# Altium integrated library Linear Technology PMIC-Switching Reg LTC1174-LTC3901.IntLib: 2647 symbols (part 216 of 310)
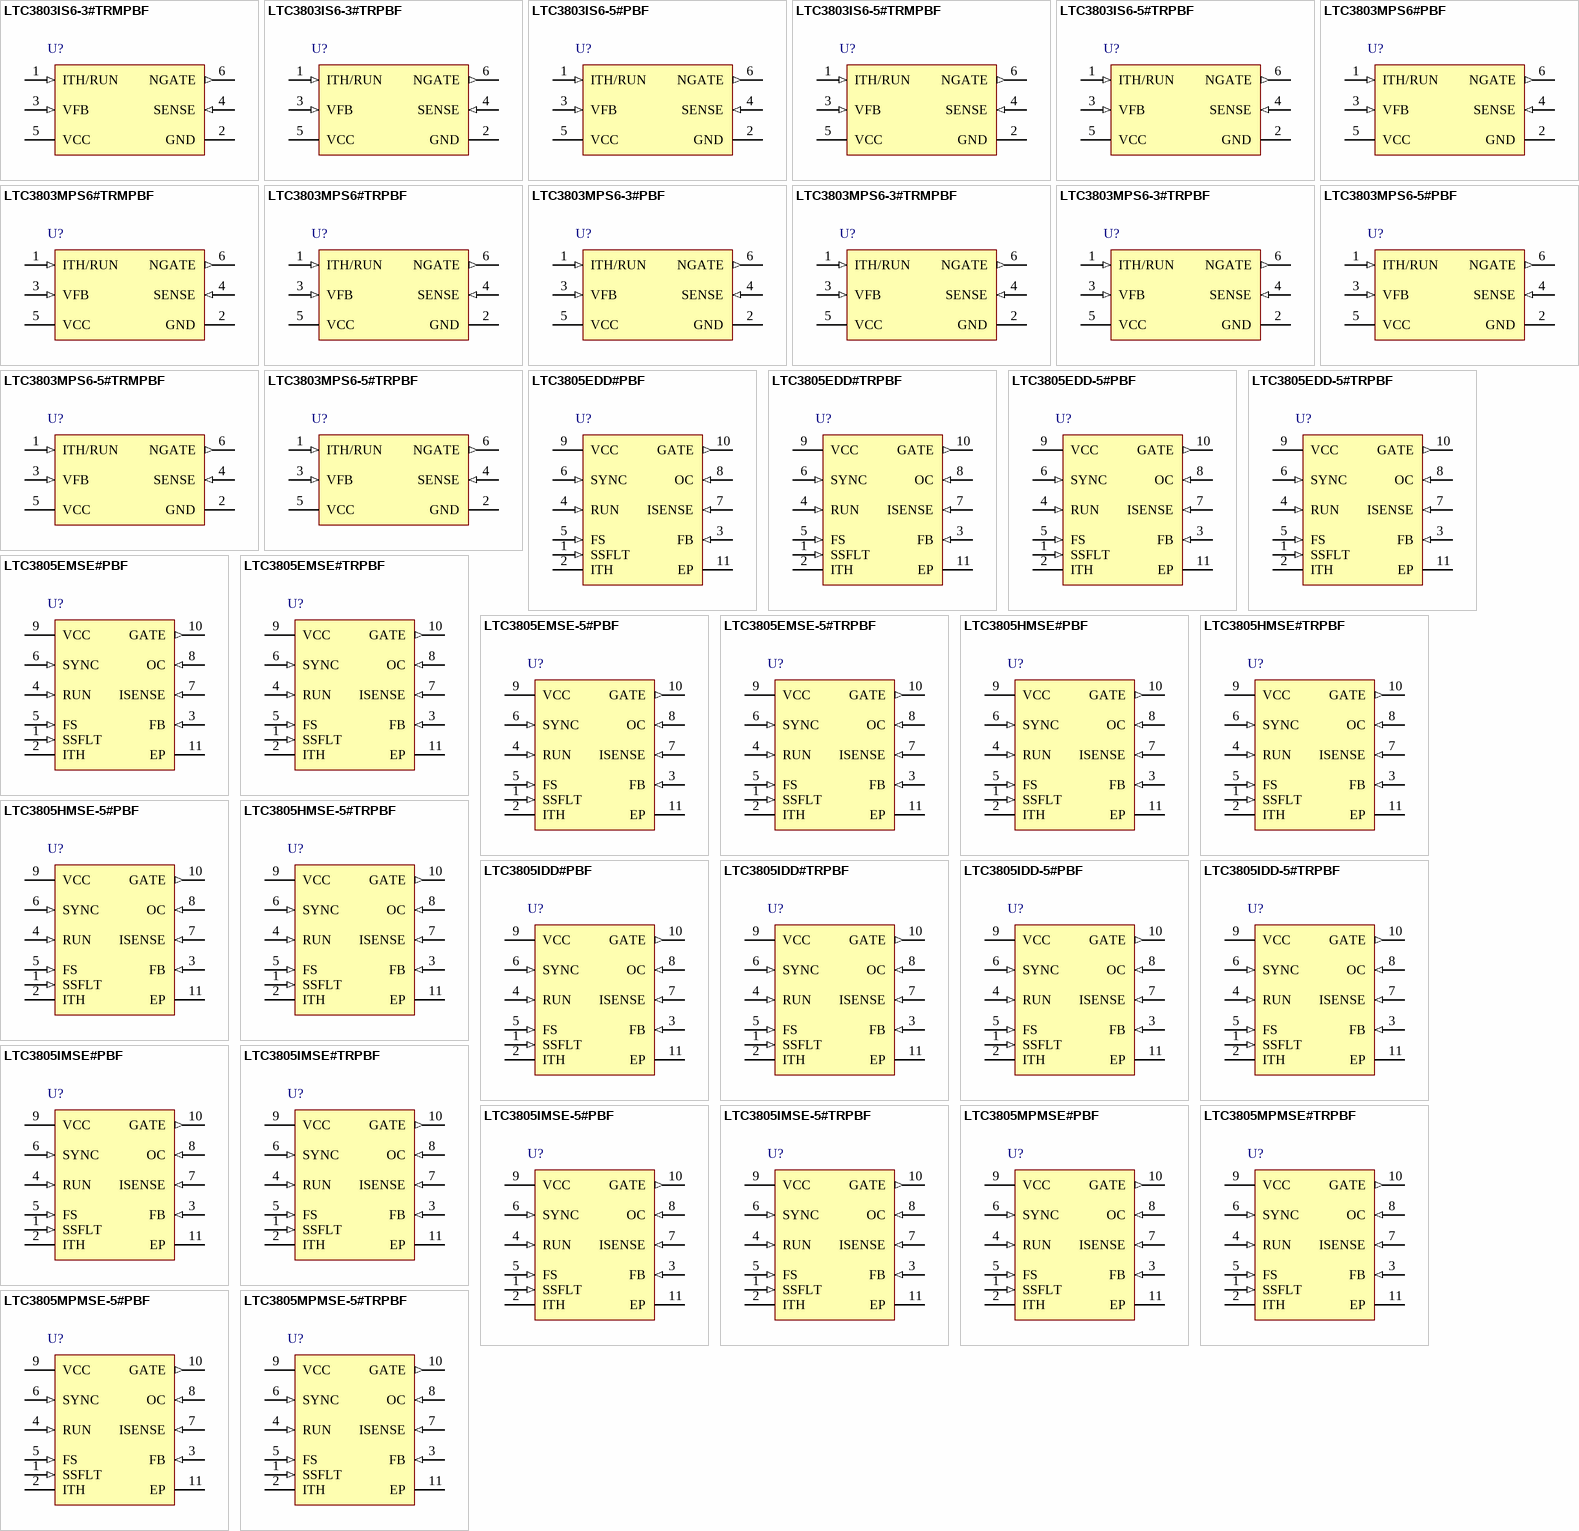
[diagram p242: symbols LTC3803IS6-3#TRMPBF to LTC3805MPMSE-5#TRPBF]

## LTC3803MPS6-5#PBF
designator U?
Constant Frequency Current Mode Flyback DC/DC Controller, 6-pin SOT23 (S6-6), -55 to 150 degC, Pb-Free; Manufacturer: Linear Technology; PartNumber: LTC3803MPS6-5#PBF; Number of Outputs: 1; PackageReference: S6-6; PackageDescription: 6-Pin Plastic TSOT-23, Body 2.9 x 1.63 mm, Pitch 0.95 mm; RoHS: TRUE; Code_JEDEC: MO-193
footprint LT-S6-6-TSOT-23_N (SOT23, 6-Leads, Body 2.9x1.75mm, Pitch 0.95mm, IPC Medium Density)
footprint LT-S6-6-TSOT-23_L (SOT23, 6-Leads, Body 2.9x1.75mm, Pitch 0.95mm, IPC High Density)
footprint LT-S6-6-TSOT-23_M (SOT23, 6-Leads, Body 2.9x1.75mm, Pitch 0.95mm, IPC Low Density)
pins: 1 ITH/RUN (in), 2 GND (power) "Ground Pin.", 3 VFB (in) "Receives the feedback voltage from an external resistive divider across the output.", 4 SENSE (in) "This pin performs two functions. It monitors switch current by reading the voltage across an external current sense resistor to ground. It also injects a current ramp that develops slope compensation voltage across an (See Datasheet)", 5 VCC (power) "Supply Pin. Must be closely decoupled to GND (Pin 2).", 6 NGATE (out) "Gate Drive for the External N-channel MOSFET. This pin swings from 0V to VCC."

## LTC3803MPS6-5#TRMPBF
designator U?
Constant Frequency Current Mode Flyback DC/DC Controller, 6-pin SOT23 (S6-6), -55 to 150 degC, Pb-Free, Mini Tape and Reel; Manufacturer: Linear Technology; PartNumber: LTC3803MPS6-5#TRMPBF; Number of Outputs: 1; PackageReference: S6-6; PackageDescription: 6-Pin Plastic TSOT-23, Body 2.9 x 1.63 mm, Pitch 0.95 mm; Supplier 1: Digi-Key; Supplier Part Number 1: LTC3803MPS6-5#TRMPBF-ND; RoHS: TRUE; Code_JEDEC: MO-193
footprint LT-S6-6-TSOT-23_N (SOT23, 6-Leads, Body 2.9x1.75mm, Pitch 0.95mm, IPC Medium Density)
footprint LT-S6-6-TSOT-23_L (SOT23, 6-Leads, Body 2.9x1.75mm, Pitch 0.95mm, IPC High Density)
footprint LT-S6-6-TSOT-23_M (SOT23, 6-Leads, Body 2.9x1.75mm, Pitch 0.95mm, IPC Low Density)
pins: 1 ITH/RUN (in), 2 GND (power) "Ground Pin.", 3 VFB (in) "Receives the feedback voltage from an external resistive divider across the output.", 4 SENSE (in) "This pin performs two functions. It monitors switch current by reading the voltage across an external current sense resistor to ground. It also injects a current ramp that develops slope compensation voltage across an (See Datasheet)", 5 VCC (power) "Supply Pin. Must be closely decoupled to GND (Pin 2).", 6 NGATE (out) "Gate Drive for the External N-channel MOSFET. This pin swings from 0V to VCC."

## LTC3803MPS6-5#TRPBF
designator U?
Constant Frequency Current Mode Flyback DC/DC Controller, 6-pin SOT23 (S6-6), -55 to 150 degC, Pb-Free, Tape and Reel; Manufacturer: Linear Technology; PartNumber: LTC3803MPS6-5#TRPBF; Number of Outputs: 1; PackageReference: S6-6; PackageDescription: 6-Pin Plastic TSOT-23, Body 2.9 x 1.63 mm, Pitch 0.95 mm; Supplier 1: Digi-Key; Supplier Part Number 1: LTC3803MPS6-5#TRPBF-ND; RoHS: TRUE; Code_JEDEC: MO-193
footprint LT-S6-6-TSOT-23_N (SOT23, 6-Leads, Body 2.9x1.75mm, Pitch 0.95mm, IPC Medium Density)
footprint LT-S6-6-TSOT-23_L (SOT23, 6-Leads, Body 2.9x1.75mm, Pitch 0.95mm, IPC High Density)
footprint LT-S6-6-TSOT-23_M (SOT23, 6-Leads, Body 2.9x1.75mm, Pitch 0.95mm, IPC Low Density)
pins: 1 ITH/RUN (in), 2 GND (power) "Ground Pin.", 3 VFB (in) "Receives the feedback voltage from an external resistive divider across the output.", 4 SENSE (in) "This pin performs two functions. It monitors switch current by reading the voltage across an external current sense resistor to ground. It also injects a current ramp that develops slope compensation voltage across an (See Datasheet)", 5 VCC (power) "Supply Pin. Must be closely decoupled to GND (Pin 2).", 6 NGATE (out) "Gate Drive for the External N-channel MOSFET. This pin swings from 0V to VCC."

## LTC3805EDD#PBF
designator U?
Adjustable Frequency Current Mode Flyback DC/DC Controller, 10-pin SON (DD-10), -40 to 85 degC, Pb-Free; Manufacturer: Linear Technology; PartNumber: LTC3805EDD#PBF; Number of Outputs: 1; PackageReference: DD-10; PackageDescription: 10-Pin Plastic DFN, Body 3 x 3 mm, Pitch 0.5 mm; Supplier 1: Digi-Key; Supplier Part Number 1: LTC3805EDD#PBF-ND; RoHS: TRUE; Code_JEDEC: MO-229
footprint LT-DD-10_V (SON, 10-Leads, Body 3x3mm, Pitch 0.5mm, Thermal Pad 2.38x1.65mm)
pins: 1 SSFLT (in) "Soft-Start Pin. A capacitor placed from this pin to GND (Exposed Pad) controls the rate of rise of converter output voltage during start-up. This capacitor is also used for time out after a fault prior to restart.", 2 ITH "Error Amplifier Compensation Point. Normal operating voltage range is clamped between 0.7V and 1.9V.", 3 FB (in) "Receives the feedback voltage from an external resistor divider across the output.", 4 RUN (in) "An external resistor divider connects this pin to VIN and sets the thresholds for converter operation.", 5 FS (in) "A resistor connected from this pin to ground sets the frequency of operation.", 6 SYNC (in) "Input to synchronize the oscillator to an external source.", 7 ISENSE (in) "Performs two functions: for current mode control, it monitors the switch current, using the voltage across an external current sense resistor. Pin 7 also injects a current ramp that develops slope compensation voltage across (See Datasheet)", 8 OC (in) "Overcurrent Pin. Connect this pin to the external switch current sense resistor. An additional resistor programs the overcurrent trip level.", 9 VCC (power) "Supply Pin. A capacitor must closely decouple VCC to GND (Exposed Pad).", 10 GATE (out) "Gate Drive for the External N-Channel MOSFET. This pin swings from GND to VCC.", 11 EP (power) "Ground. A capacitor must closely decouple GND to VCC (Pin 9). The exposed pad must be soldered to electrical ground on PCB for electrical contact and rated thermal performance."

## LTC3805EDD#TRPBF
designator U?
Adjustable Frequency Current Mode Flyback DC/DC Controller, 10-pin SON (DD-10), -40 to 85 degC, Pb-Free, Tape and Reel; Manufacturer: Linear Technology; PartNumber: LTC3805EDD#TRPBF; Number of Outputs: 1; PackageReference: DD-10; PackageDescription: 10-Pin Plastic DFN, Body 3 x 3 mm, Pitch 0.5 mm; Supplier 1: Digi-Key; Supplier Part Number 1: LTC3805EDD#TRPBF-ND; RoHS: TRUE; Code_JEDEC: MO-229
footprint LT-DD-10_V (SON, 10-Leads, Body 3x3mm, Pitch 0.5mm, Thermal Pad 2.38x1.65mm)
pins: 1 SSFLT (in) "Soft-Start Pin. A capacitor placed from this pin to GND (Exposed Pad) controls the rate of rise of converter output voltage during start-up. This capacitor is also used for time out after a fault prior to restart.", 2 ITH "Error Amplifier Compensation Point. Normal operating voltage range is clamped between 0.7V and 1.9V.", 3 FB (in) "Receives the feedback voltage from an external resistor divider across the output.", 4 RUN (in) "An external resistor divider connects this pin to VIN and sets the thresholds for converter operation.", 5 FS (in) "A resistor connected from this pin to ground sets the frequency of operation.", 6 SYNC (in) "Input to synchronize the oscillator to an external source.", 7 ISENSE (in) "Performs two functions: for current mode control, it monitors the switch current, using the voltage across an external current sense resistor. Pin 7 also injects a current ramp that develops slope compensation voltage across (See Datasheet)", 8 OC (in) "Overcurrent Pin. Connect this pin to the external switch current sense resistor. An additional resistor programs the overcurrent trip level.", 9 VCC (power) "Supply Pin. A capacitor must closely decouple VCC to GND (Exposed Pad).", 10 GATE (out) "Gate Drive for the External N-Channel MOSFET. This pin swings from GND to VCC.", 11 EP (power) "Ground. A capacitor must closely decouple GND to VCC (Pin 9). The exposed pad must be soldered to electrical ground on PCB for electrical contact and rated thermal performance."

## LTC3805EDD-5#PBF
designator U?
Adjustable Frequency Current Mode Flyback / Boost / SEPIC DC/DC Controller, 10-pin SON (DD-10), -40 to 85 degC, Pb-Free; Manufacturer: Linear Technology; PartNumber: LTC3805EDD-5#PBF; Number of Outputs: 1; PackageReference: DD-10; PackageDescription: 10-Pin Plastic DFN, Body 3 x 3 mm, Pitch 0.5 mm; Supplier 1: Digi-Key; Supplier Part Number 1: LTC3805EDD-5#PBF-ND; RoHS: TRUE; Code_JEDEC: MO-229
footprint LT-DD-10_V (SON, 10-Leads, Body 3x3mm, Pitch 0.5mm, Thermal Pad 2.38x1.65mm)
pins: 1 SSFLT (in) "Soft-Start Pin. A capacitor placed from this pin to GND (Exposed Pad) controls the rate of rise of converter output voltage during start-up. This capacitor is also used for time out after a fault prior to restart.", 2 ITH "Error Amplifier Compensation Point. Normal operating voltage range is clamped between 0.7V and 1.9V.", 3 FB (in) "Receives the feedback voltage from an external resistor divider across the output.", 4 RUN (in) "An external resistor divider connects this pin to VIN and sets the thresholds for converter operation.", 5 FS (in) "A resistor connected from this pin to ground sets the frequency of operation.", 6 SYNC (in) "Input to synchronize the oscillator to an external source.", 7 ISENSE (in) "Performs two functions: for current mode control, it monitors the switch current, using the voltage across an external current sense resistor. Pin 7 also injects a current ramp that develops slope compensation voltage across (See Datasheet)", 8 OC (in) "Overcurrent Pin. Connect this pin to the external switch current sense resistor. An additional resistor programs the overcurrent trip level.", 9 VCC (power) "Supply Pin. A capacitor must closely decouple VCC to GND (Exposed Pad).", 10 GATE (out) "Gate Drive for the External N-Channel MOSFET. This pin swings from GND to VCC.", 11 EP (power) "Ground. A capacitor must closely decouple GND to VCC (Pin 9). The exposed pad must be soldered to electrical ground on PCB for electrical contact and rated thermal performance."

## LTC3805EDD-5#TRPBF
designator U?
Adjustable Frequency Current Mode Flyback / Boost / SEPIC DC/DC Controller, 10-pin SON (DD-10), -40 to 85 degC, Pb-Free, Tape and Reel; Manufacturer: Linear Technology; PartNumber: LTC3805EDD-5#TRPBF; Number of Outputs: 1; PackageReference: DD-10; PackageDescription: 10-Pin Plastic DFN, Body 3 x 3 mm, Pitch 0.5 mm; Supplier 1: Digi-Key; Supplier Part Number 1: LTC3805EDD-5#TRPBF-ND; RoHS: TRUE; Code_JEDEC: MO-229
footprint LT-DD-10_V (SON, 10-Leads, Body 3x3mm, Pitch 0.5mm, Thermal Pad 2.38x1.65mm)
pins: 1 SSFLT (in) "Soft-Start Pin. A capacitor placed from this pin to GND (Exposed Pad) controls the rate of rise of converter output voltage during start-up. This capacitor is also used for time out after a fault prior to restart.", 2 ITH "Error Amplifier Compensation Point. Normal operating voltage range is clamped between 0.7V and 1.9V.", 3 FB (in) "Receives the feedback voltage from an external resistor divider across the output.", 4 RUN (in) "An external resistor divider connects this pin to VIN and sets the thresholds for converter operation.", 5 FS (in) "A resistor connected from this pin to ground sets the frequency of operation.", 6 SYNC (in) "Input to synchronize the oscillator to an external source.", 7 ISENSE (in) "Performs two functions: for current mode control, it monitors the switch current, using the voltage across an external current sense resistor. Pin 7 also injects a current ramp that develops slope compensation voltage across (See Datasheet)", 8 OC (in) "Overcurrent Pin. Connect this pin to the external switch current sense resistor. An additional resistor programs the overcurrent trip level.", 9 VCC (power) "Supply Pin. A capacitor must closely decouple VCC to GND (Exposed Pad).", 10 GATE (out) "Gate Drive for the External N-Channel MOSFET. This pin swings from GND to VCC.", 11 EP (power) "Ground. A capacitor must closely decouple GND to VCC (Pin 9). The exposed pad must be soldered to electrical ground on PCB for electrical contact and rated thermal performance."

## LTC3805EMSE#PBF
designator U?
Adjustable Frequency Current Mode Flyback DC/DC Controller, 10-pin SOP (MSE-10-EDP), -40 to 85 degC, Pb-Free; Manufacturer: Linear Technology; PartNumber: LTC3805EMSE#PBF; Number of Outputs: 1; PackageReference: MSE-10; PackageDescription: 10-Pin Plastic MSOP, Exposed Die Pad, Body 3 x 3 mm, Pitch 0.5 mm; Supplier 1: Digi-Key; Supplier Part Number 1: LTC3805EMSE#PBF-ND; RoHS: TRUE
footprint LT-MSE-10-EDP_N (SOP, 10-Leads, Body 3.1x3.1mm, Pitch 0.5mm, Thermal Pad 1.88x1.68mm, IPC Medium Density)
footprint LT-MSE-10-EDP_L (SOP, 10-Leads, Body 3.1x3.1mm, Pitch 0.5mm, Thermal Pad 1.88x1.68mm, IPC High Density)
footprint LT-MSE-10-EDP_M (SOP, 10-Leads, Body 3.1x3.1mm, Pitch 0.5mm, Thermal Pad 1.88x1.68mm, IPC Low Density)
pins: 1 SSFLT (in) "Soft-Start Pin. A capacitor placed from this pin to GND (Exposed Pad) controls the rate of rise of converter output voltage during start-up. This capacitor is also used for time out after a fault prior to restart.", 2 ITH "Error Amplifier Compensation Point. Normal operating voltage range is clamped between 0.7V and 1.9V.", 3 FB (in) "Receives the feedback voltage from an external resistor divider across the output.", 4 RUN (in) "An external resistor divider connects this pin to VIN and sets the thresholds for converter operation.", 5 FS (in) "A resistor connected from this pin to ground sets the frequency of operation.", 6 SYNC (in) "Input to synchronize the oscillator to an external source.", 7 ISENSE (in) "Performs two functions: for current mode control, it monitors the switch current, using the voltage across an external current sense resistor. Pin 7 also injects a current ramp that develops slope compensation voltage across (See Datasheet)", 8 OC (in) "Overcurrent Pin. Connect this pin to the external switch current sense resistor. An additional resistor programs the overcurrent trip level.", 9 VCC (power) "Supply Pin. A capacitor must closely decouple VCC to GND (Exposed Pad).", 10 GATE (out) "Gate Drive for the External N-Channel MOSFET. This pin swings from GND to VCC.", 11 EP (power) "Ground. A capacitor must closely decouple GND to VCC (Pin 9). The exposed pad must be soldered to electrical ground on PCB for electrical contact and rated thermal performance."

## LTC3805EMSE#TRPBF
designator U?
Adjustable Frequency Current Mode Flyback DC/DC Controller, 10-pin SOP (MSE-10-EDP), -40 to 85 degC, Pb-Free, Tape and Reel; Manufacturer: Linear Technology; PartNumber: LTC3805EMSE#TRPBF; Number of Outputs: 1; PackageReference: MSE-10; PackageDescription: 10-Pin Plastic MSOP, Exposed Die Pad, Body 3 x 3 mm, Pitch 0.5 mm; Supplier 1: Digi-Key; Supplier Part Number 1: LTC3805EMSE#TRPBF-ND; RoHS: TRUE
footprint LT-MSE-10-EDP_N (SOP, 10-Leads, Body 3.1x3.1mm, Pitch 0.5mm, Thermal Pad 1.88x1.68mm, IPC Medium Density)
footprint LT-MSE-10-EDP_L (SOP, 10-Leads, Body 3.1x3.1mm, Pitch 0.5mm, Thermal Pad 1.88x1.68mm, IPC High Density)
footprint LT-MSE-10-EDP_M (SOP, 10-Leads, Body 3.1x3.1mm, Pitch 0.5mm, Thermal Pad 1.88x1.68mm, IPC Low Density)
pins: 1 SSFLT (in) "Soft-Start Pin. A capacitor placed from this pin to GND (Exposed Pad) controls the rate of rise of converter output voltage during start-up. This capacitor is also used for time out after a fault prior to restart.", 2 ITH "Error Amplifier Compensation Point. Normal operating voltage range is clamped between 0.7V and 1.9V.", 3 FB (in) "Receives the feedback voltage from an external resistor divider across the output.", 4 RUN (in) "An external resistor divider connects this pin to VIN and sets the thresholds for converter operation.", 5 FS (in) "A resistor connected from this pin to ground sets the frequency of operation.", 6 SYNC (in) "Input to synchronize the oscillator to an external source.", 7 ISENSE (in) "Performs two functions: for current mode control, it monitors the switch current, using the voltage across an external current sense resistor. Pin 7 also injects a current ramp that develops slope compensation voltage across (See Datasheet)", 8 OC (in) "Overcurrent Pin. Connect this pin to the external switch current sense resistor. An additional resistor programs the overcurrent trip level.", 9 VCC (power) "Supply Pin. A capacitor must closely decouple VCC to GND (Exposed Pad).", 10 GATE (out) "Gate Drive for the External N-Channel MOSFET. This pin swings from GND to VCC.", 11 EP (power) "Ground. A capacitor must closely decouple GND to VCC (Pin 9). The exposed pad must be soldered to electrical ground on PCB for electrical contact and rated thermal performance."

## LTC3805EMSE-5#PBF
designator U?
Adjustable Frequency Current Mode Flyback / Boost / SEPIC DC/DC Controller, 10-pin SOP (MSE-10-EDP), -40 to 85 degC, Pb-Free; Manufacturer: Linear Technology; PartNumber: LTC3805EMSE-5#PBF; Number of Outputs: 1; PackageReference: MSE-10; PackageDescription: 10-Pin Plastic MSOP, Exposed Die Pad, Body 3 x 3 mm, Pitch 0.5 mm; Supplier 1: Digi-Key; Supplier Part Number 1: LTC3805EMSE-5#PBF-ND; RoHS: TRUE
footprint LT-MSE-10-EDP_N (SOP, 10-Leads, Body 3.1x3.1mm, Pitch 0.5mm, Thermal Pad 1.88x1.68mm, IPC Medium Density)
footprint LT-MSE-10-EDP_L (SOP, 10-Leads, Body 3.1x3.1mm, Pitch 0.5mm, Thermal Pad 1.88x1.68mm, IPC High Density)
footprint LT-MSE-10-EDP_M (SOP, 10-Leads, Body 3.1x3.1mm, Pitch 0.5mm, Thermal Pad 1.88x1.68mm, IPC Low Density)
pins: 1 SSFLT (in) "Soft-Start Pin. A capacitor placed from this pin to GND (Exposed Pad) controls the rate of rise of converter output voltage during start-up. This capacitor is also used for time out after a fault prior to restart.", 2 ITH "Error Amplifier Compensation Point. Normal operating voltage range is clamped between 0.7V and 1.9V.", 3 FB (in) "Receives the feedback voltage from an external resistor divider across the output.", 4 RUN (in) "An external resistor divider connects this pin to VIN and sets the thresholds for converter operation.", 5 FS (in) "A resistor connected from this pin to ground sets the frequency of operation.", 6 SYNC (in) "Input to synchronize the oscillator to an external source.", 7 ISENSE (in) "Performs two functions: for current mode control, it monitors the switch current, using the voltage across an external current sense resistor. Pin 7 also injects a current ramp that develops slope compensation voltage across (See Datasheet)", 8 OC (in) "Overcurrent Pin. Connect this pin to the external switch current sense resistor. An additional resistor programs the overcurrent trip level.", 9 VCC (power) "Supply Pin. A capacitor must closely decouple VCC to GND (Exposed Pad).", 10 GATE (out) "Gate Drive for the External N-Channel MOSFET. This pin swings from GND to VCC.", 11 EP (power) "Ground. A capacitor must closely decouple GND to VCC (Pin 9). The exposed pad must be soldered to electrical ground on PCB for electrical contact and rated thermal performance."

## LTC3805EMSE-5#TRPBF
designator U?
Adjustable Frequency Current Mode Flyback / Boost / SEPIC DC/DC Controller, 10-pin SOP (MSE-10-EDP), -40 to 85 degC, Pb-Free, Tape and Reel; Manufacturer: Linear Technology; PartNumber: LTC3805EMSE-5#TRPBF; Number of Outputs: 1; PackageReference: MSE-10; PackageDescription: 10-Pin Plastic MSOP, Exposed Die Pad, Body 3 x 3 mm, Pitch 0.5 mm; Supplier 1: Digi-Key; Supplier Part Number 1: LTC3805EMSE-5#TRPBF-ND; RoHS: TRUE
footprint LT-MSE-10-EDP_N (SOP, 10-Leads, Body 3.1x3.1mm, Pitch 0.5mm, Thermal Pad 1.88x1.68mm, IPC Medium Density)
footprint LT-MSE-10-EDP_L (SOP, 10-Leads, Body 3.1x3.1mm, Pitch 0.5mm, Thermal Pad 1.88x1.68mm, IPC High Density)
footprint LT-MSE-10-EDP_M (SOP, 10-Leads, Body 3.1x3.1mm, Pitch 0.5mm, Thermal Pad 1.88x1.68mm, IPC Low Density)
pins: 1 SSFLT (in) "Soft-Start Pin. A capacitor placed from this pin to GND (Exposed Pad) controls the rate of rise of converter output voltage during start-up. This capacitor is also used for time out after a fault prior to restart.", 2 ITH "Error Amplifier Compensation Point. Normal operating voltage range is clamped between 0.7V and 1.9V.", 3 FB (in) "Receives the feedback voltage from an external resistor divider across the output.", 4 RUN (in) "An external resistor divider connects this pin to VIN and sets the thresholds for converter operation.", 5 FS (in) "A resistor connected from this pin to ground sets the frequency of operation.", 6 SYNC (in) "Input to synchronize the oscillator to an external source.", 7 ISENSE (in) "Performs two functions: for current mode control, it monitors the switch current, using the voltage across an external current sense resistor. Pin 7 also injects a current ramp that develops slope compensation voltage across (See Datasheet)", 8 OC (in) "Overcurrent Pin. Connect this pin to the external switch current sense resistor. An additional resistor programs the overcurrent trip level.", 9 VCC (power) "Supply Pin. A capacitor must closely decouple VCC to GND (Exposed Pad).", 10 GATE (out) "Gate Drive for the External N-Channel MOSFET. This pin swings from GND to VCC.", 11 EP (power) "Ground. A capacitor must closely decouple GND to VCC (Pin 9). The exposed pad must be soldered to electrical ground on PCB for electrical contact and rated thermal performance."

## LTC3805HMSE#PBF
designator U?
Adjustable Frequency Current Mode Flyback DC/DC Controller, 10-pin SOP (MSE-10-EDP), -40 to 150 degC, Pb-Free; Manufacturer: Linear Technology; PartNumber: LTC3805HMSE#PBF; Number of Outputs: 1; PackageReference: MSE-10; PackageDescription: 10-Pin Plastic MSOP, Exposed Die Pad, Body 3 x 3 mm, Pitch 0.5 mm; Supplier 1: Digi-Key; Supplier Part Number 1: LTC3805HMSE#PBF-ND; RoHS: TRUE
footprint LT-MSE-10-EDP_N (SOP, 10-Leads, Body 3.1x3.1mm, Pitch 0.5mm, Thermal Pad 1.88x1.68mm, IPC Medium Density)
footprint LT-MSE-10-EDP_L (SOP, 10-Leads, Body 3.1x3.1mm, Pitch 0.5mm, Thermal Pad 1.88x1.68mm, IPC High Density)
footprint LT-MSE-10-EDP_M (SOP, 10-Leads, Body 3.1x3.1mm, Pitch 0.5mm, Thermal Pad 1.88x1.68mm, IPC Low Density)
pins: 1 SSFLT (in) "Soft-Start Pin. A capacitor placed from this pin to GND (Exposed Pad) controls the rate of rise of converter output voltage during start-up. This capacitor is also used for time out after a fault prior to restart.", 2 ITH "Error Amplifier Compensation Point. Normal operating voltage range is clamped between 0.7V and 1.9V.", 3 FB (in) "Receives the feedback voltage from an external resistor divider across the output.", 4 RUN (in) "An external resistor divider connects this pin to VIN and sets the thresholds for converter operation.", 5 FS (in) "A resistor connected from this pin to ground sets the frequency of operation.", 6 SYNC (in) "Input to synchronize the oscillator to an external source.", 7 ISENSE (in) "Performs two functions: for current mode control, it monitors the switch current, using the voltage across an external current sense resistor. Pin 7 also injects a current ramp that develops slope compensation voltage across (See Datasheet)", 8 OC (in) "Overcurrent Pin. Connect this pin to the external switch current sense resistor. An additional resistor programs the overcurrent trip level.", 9 VCC (power) "Supply Pin. A capacitor must closely decouple VCC to GND (Exposed Pad).", 10 GATE (out) "Gate Drive for the External N-Channel MOSFET. This pin swings from GND to VCC.", 11 EP (power) "Ground. A capacitor must closely decouple GND to VCC (Pin 9). The exposed pad must be soldered to electrical ground on PCB for electrical contact and rated thermal performance."

## LTC3805HMSE#TRPBF
designator U?
Adjustable Frequency Current Mode Flyback DC/DC Controller, 10-pin SOP (MSE-10-EDP), -40 to 150 degC, Pb-Free, Tape and Reel; Manufacturer: Linear Technology; PartNumber: LTC3805HMSE#TRPBF; Number of Outputs: 1; PackageReference: MSE-10; PackageDescription: 10-Pin Plastic MSOP, Exposed Die Pad, Body 3 x 3 mm, Pitch 0.5 mm; Supplier 1: Digi-Key; Supplier Part Number 1: LTC3805HMSE#TRPBF-ND; RoHS: TRUE
footprint LT-MSE-10-EDP_N (SOP, 10-Leads, Body 3.1x3.1mm, Pitch 0.5mm, Thermal Pad 1.88x1.68mm, IPC Medium Density)
footprint LT-MSE-10-EDP_L (SOP, 10-Leads, Body 3.1x3.1mm, Pitch 0.5mm, Thermal Pad 1.88x1.68mm, IPC High Density)
footprint LT-MSE-10-EDP_M (SOP, 10-Leads, Body 3.1x3.1mm, Pitch 0.5mm, Thermal Pad 1.88x1.68mm, IPC Low Density)
pins: 1 SSFLT (in) "Soft-Start Pin. A capacitor placed from this pin to GND (Exposed Pad) controls the rate of rise of converter output voltage during start-up. This capacitor is also used for time out after a fault prior to restart.", 2 ITH "Error Amplifier Compensation Point. Normal operating voltage range is clamped between 0.7V and 1.9V.", 3 FB (in) "Receives the feedback voltage from an external resistor divider across the output.", 4 RUN (in) "An external resistor divider connects this pin to VIN and sets the thresholds for converter operation.", 5 FS (in) "A resistor connected from this pin to ground sets the frequency of operation.", 6 SYNC (in) "Input to synchronize the oscillator to an external source.", 7 ISENSE (in) "Performs two functions: for current mode control, it monitors the switch current, using the voltage across an external current sense resistor. Pin 7 also injects a current ramp that develops slope compensation voltage across (See Datasheet)", 8 OC (in) "Overcurrent Pin. Connect this pin to the external switch current sense resistor. An additional resistor programs the overcurrent trip level.", 9 VCC (power) "Supply Pin. A capacitor must closely decouple VCC to GND (Exposed Pad).", 10 GATE (out) "Gate Drive for the External N-Channel MOSFET. This pin swings from GND to VCC.", 11 EP (power) "Ground. A capacitor must closely decouple GND to VCC (Pin 9). The exposed pad must be soldered to electrical ground on PCB for electrical contact and rated thermal performance."

## LTC3805HMSE-5#PBF
designator U?
Adjustable Frequency Current Mode Flyback / Boost / SEPIC DC/DC Controller, 10-pin SOP (MSE-10-EDP), -40 to 150 degC, Pb-Free; Manufacturer: Linear Technology; PartNumber: LTC3805HMSE-5#PBF; Number of Outputs: 1; PackageReference: MSE-10; PackageDescription: 10-Pin Plastic MSOP, Exposed Die Pad, Body 3 x 3 mm, Pitch 0.5 mm; Supplier 1: Digi-Key; Supplier Part Number 1: LTC3805HMSE-5#PBF-ND; RoHS: TRUE
footprint LT-MSE-10-EDP_N (SOP, 10-Leads, Body 3.1x3.1mm, Pitch 0.5mm, Thermal Pad 1.88x1.68mm, IPC Medium Density)
footprint LT-MSE-10-EDP_L (SOP, 10-Leads, Body 3.1x3.1mm, Pitch 0.5mm, Thermal Pad 1.88x1.68mm, IPC High Density)
footprint LT-MSE-10-EDP_M (SOP, 10-Leads, Body 3.1x3.1mm, Pitch 0.5mm, Thermal Pad 1.88x1.68mm, IPC Low Density)
pins: 1 SSFLT (in) "Soft-Start Pin. A capacitor placed from this pin to GND (Exposed Pad) controls the rate of rise of converter output voltage during start-up. This capacitor is also used for time out after a fault prior to restart.", 2 ITH "Error Amplifier Compensation Point. Normal operating voltage range is clamped between 0.7V and 1.9V.", 3 FB (in) "Receives the feedback voltage from an external resistor divider across the output.", 4 RUN (in) "An external resistor divider connects this pin to VIN and sets the thresholds for converter operation.", 5 FS (in) "A resistor connected from this pin to ground sets the frequency of operation.", 6 SYNC (in) "Input to synchronize the oscillator to an external source.", 7 ISENSE (in) "Performs two functions: for current mode control, it monitors the switch current, using the voltage across an external current sense resistor. Pin 7 also injects a current ramp that develops slope compensation voltage across (See Datasheet)", 8 OC (in) "Overcurrent Pin. Connect this pin to the external switch current sense resistor. An additional resistor programs the overcurrent trip level.", 9 VCC (power) "Supply Pin. A capacitor must closely decouple VCC to GND (Exposed Pad).", 10 GATE (out) "Gate Drive for the External N-Channel MOSFET. This pin swings from GND to VCC.", 11 EP (power) "Ground. A capacitor must closely decouple GND to VCC (Pin 9). The exposed pad must be soldered to electrical ground on PCB for electrical contact and rated thermal performance."

## LTC3805HMSE-5#TRPBF
designator U?
Adjustable Frequency Current Mode Flyback / Boost / SEPIC DC/DC Controller, 10-pin SOP (MSE-10-EDP), -40 to 150 degC, Pb-Free, Tape and Reel; Manufacturer: Linear Technology; PartNumber: LTC3805HMSE-5#TRPBF; Number of Outputs: 1; PackageReference: MSE-10; PackageDescription: 10-Pin Plastic MSOP, Exposed Die Pad, Body 3 x 3 mm, Pitch 0.5 mm; Supplier 1: Digi-Key; Supplier Part Number 1: LTC3805HMSE-5#TRPBF-ND; RoHS: TRUE
footprint LT-MSE-10-EDP_N (SOP, 10-Leads, Body 3.1x3.1mm, Pitch 0.5mm, Thermal Pad 1.88x1.68mm, IPC Medium Density)
footprint LT-MSE-10-EDP_L (SOP, 10-Leads, Body 3.1x3.1mm, Pitch 0.5mm, Thermal Pad 1.88x1.68mm, IPC High Density)
footprint LT-MSE-10-EDP_M (SOP, 10-Leads, Body 3.1x3.1mm, Pitch 0.5mm, Thermal Pad 1.88x1.68mm, IPC Low Density)
pins: 1 SSFLT (in) "Soft-Start Pin. A capacitor placed from this pin to GND (Exposed Pad) controls the rate of rise of converter output voltage during start-up. This capacitor is also used for time out after a fault prior to restart.", 2 ITH "Error Amplifier Compensation Point. Normal operating voltage range is clamped between 0.7V and 1.9V.", 3 FB (in) "Receives the feedback voltage from an external resistor divider across the output.", 4 RUN (in) "An external resistor divider connects this pin to VIN and sets the thresholds for converter operation.", 5 FS (in) "A resistor connected from this pin to ground sets the frequency of operation.", 6 SYNC (in) "Input to synchronize the oscillator to an external source.", 7 ISENSE (in) "Performs two functions: for current mode control, it monitors the switch current, using the voltage across an external current sense resistor. Pin 7 also injects a current ramp that develops slope compensation voltage across (See Datasheet)", 8 OC (in) "Overcurrent Pin. Connect this pin to the external switch current sense resistor. An additional resistor programs the overcurrent trip level.", 9 VCC (power) "Supply Pin. A capacitor must closely decouple VCC to GND (Exposed Pad).", 10 GATE (out) "Gate Drive for the External N-Channel MOSFET. This pin swings from GND to VCC.", 11 EP (power) "Ground. A capacitor must closely decouple GND to VCC (Pin 9). The exposed pad must be soldered to electrical ground on PCB for electrical contact and rated thermal performance."

## LTC3805IDD#PBF
designator U?
Adjustable Frequency Current Mode Flyback DC/DC Controller, 10-pin SON (DD-10), -40 to 125 degC, Pb-Free; Manufacturer: Linear Technology; PartNumber: LTC3805IDD#PBF; Number of Outputs: 1; PackageReference: DD-10; PackageDescription: 10-Pin Plastic DFN, Body 3 x 3 mm, Pitch 0.5 mm; Supplier 1: Digi-Key; Supplier Part Number 1: LTC3805IDD#PBF-ND; RoHS: TRUE; Code_JEDEC: MO-229
footprint LT-DD-10_V (SON, 10-Leads, Body 3x3mm, Pitch 0.5mm, Thermal Pad 2.38x1.65mm)
pins: 1 SSFLT (in) "Soft-Start Pin. A capacitor placed from this pin to GND (Exposed Pad) controls the rate of rise of converter output voltage during start-up. This capacitor is also used for time out after a fault prior to restart.", 2 ITH "Error Amplifier Compensation Point. Normal operating voltage range is clamped between 0.7V and 1.9V.", 3 FB (in) "Receives the feedback voltage from an external resistor divider across the output.", 4 RUN (in) "An external resistor divider connects this pin to VIN and sets the thresholds for converter operation.", 5 FS (in) "A resistor connected from this pin to ground sets the frequency of operation.", 6 SYNC (in) "Input to synchronize the oscillator to an external source.", 7 ISENSE (in) "Performs two functions: for current mode control, it monitors the switch current, using the voltage across an external current sense resistor. Pin 7 also injects a current ramp that develops slope compensation voltage across (See Datasheet)", 8 OC (in) "Overcurrent Pin. Connect this pin to the external switch current sense resistor. An additional resistor programs the overcurrent trip level.", 9 VCC (power) "Supply Pin. A capacitor must closely decouple VCC to GND (Exposed Pad).", 10 GATE (out) "Gate Drive for the External N-Channel MOSFET. This pin swings from GND to VCC.", 11 EP (power) "Ground. A capacitor must closely decouple GND to VCC (Pin 9). The exposed pad must be soldered to electrical ground on PCB for electrical contact and rated thermal performance."

## LTC3805IDD#TRPBF
designator U?
Adjustable Frequency Current Mode Flyback DC/DC Controller, 10-pin SON (DD-10), -40 to 125 degC, Pb-Free, Tape and Reel; Manufacturer: Linear Technology; PartNumber: LTC3805IDD#TRPBF; Number of Outputs: 1; PackageReference: DD-10; PackageDescription: 10-Pin Plastic DFN, Body 3 x 3 mm, Pitch 0.5 mm; Supplier 1: Digi-Key; Supplier Part Number 1: LTC3805IDD#TRPBF-ND; RoHS: TRUE; Code_JEDEC: MO-229
footprint LT-DD-10_V (SON, 10-Leads, Body 3x3mm, Pitch 0.5mm, Thermal Pad 2.38x1.65mm)
pins: 1 SSFLT (in) "Soft-Start Pin. A capacitor placed from this pin to GND (Exposed Pad) controls the rate of rise of converter output voltage during start-up. This capacitor is also used for time out after a fault prior to restart.", 2 ITH "Error Amplifier Compensation Point. Normal operating voltage range is clamped between 0.7V and 1.9V.", 3 FB (in) "Receives the feedback voltage from an external resistor divider across the output.", 4 RUN (in) "An external resistor divider connects this pin to VIN and sets the thresholds for converter operation.", 5 FS (in) "A resistor connected from this pin to ground sets the frequency of operation.", 6 SYNC (in) "Input to synchronize the oscillator to an external source.", 7 ISENSE (in) "Performs two functions: for current mode control, it monitors the switch current, using the voltage across an external current sense resistor. Pin 7 also injects a current ramp that develops slope compensation voltage across (See Datasheet)", 8 OC (in) "Overcurrent Pin. Connect this pin to the external switch current sense resistor. An additional resistor programs the overcurrent trip level.", 9 VCC (power) "Supply Pin. A capacitor must closely decouple VCC to GND (Exposed Pad).", 10 GATE (out) "Gate Drive for the External N-Channel MOSFET. This pin swings from GND to VCC.", 11 EP (power) "Ground. A capacitor must closely decouple GND to VCC (Pin 9). The exposed pad must be soldered to electrical ground on PCB for electrical contact and rated thermal performance."

## LTC3805IDD-5#PBF
designator U?
Adjustable Frequency Current Mode Flyback / Boost / SEPIC DC/DC Controller, 10-pin SON (DD-10), -40 to 125 degC, Pb-Free; Manufacturer: Linear Technology; PartNumber: LTC3805IDD-5#PBF; Number of Outputs: 1; PackageReference: DD-10; PackageDescription: 10-Pin Plastic DFN, Body 3 x 3 mm, Pitch 0.5 mm; Supplier 1: Digi-Key; Supplier Part Number 1: LTC3805IDD-5#PBF-ND; RoHS: TRUE; Code_JEDEC: MO-229
footprint LT-DD-10_V (SON, 10-Leads, Body 3x3mm, Pitch 0.5mm, Thermal Pad 2.38x1.65mm)
pins: 1 SSFLT (in) "Soft-Start Pin. A capacitor placed from this pin to GND (Exposed Pad) controls the rate of rise of converter output voltage during start-up. This capacitor is also used for time out after a fault prior to restart.", 2 ITH "Error Amplifier Compensation Point. Normal operating voltage range is clamped between 0.7V and 1.9V.", 3 FB (in) "Receives the feedback voltage from an external resistor divider across the output.", 4 RUN (in) "An external resistor divider connects this pin to VIN and sets the thresholds for converter operation.", 5 FS (in) "A resistor connected from this pin to ground sets the frequency of operation.", 6 SYNC (in) "Input to synchronize the oscillator to an external source.", 7 ISENSE (in) "Performs two functions: for current mode control, it monitors the switch current, using the voltage across an external current sense resistor. Pin 7 also injects a current ramp that develops slope compensation voltage across (See Datasheet)", 8 OC (in) "Overcurrent Pin. Connect this pin to the external switch current sense resistor. An additional resistor programs the overcurrent trip level.", 9 VCC (power) "Supply Pin. A capacitor must closely decouple VCC to GND (Exposed Pad).", 10 GATE (out) "Gate Drive for the External N-Channel MOSFET. This pin swings from GND to VCC.", 11 EP (power) "Ground. A capacitor must closely decouple GND to VCC (Pin 9). The exposed pad must be soldered to electrical ground on PCB for electrical contact and rated thermal performance."

## LTC3805IDD-5#TRPBF
designator U?
Adjustable Frequency Current Mode Flyback / Boost / SEPIC DC/DC Controller, 10-pin SON (DD-10), -40 to 125 degC, Pb-Free, Tape and Reel; Manufacturer: Linear Technology; PartNumber: LTC3805IDD-5#TRPBF; Number of Outputs: 1; PackageReference: DD-10; PackageDescription: 10-Pin Plastic DFN, Body 3 x 3 mm, Pitch 0.5 mm; Supplier 1: Digi-Key; Supplier Part Number 1: LTC3805IDD-5#TRPBF-ND; RoHS: TRUE; Code_JEDEC: MO-229
footprint LT-DD-10_V (SON, 10-Leads, Body 3x3mm, Pitch 0.5mm, Thermal Pad 2.38x1.65mm)
pins: 1 SSFLT (in) "Soft-Start Pin. A capacitor placed from this pin to GND (Exposed Pad) controls the rate of rise of converter output voltage during start-up. This capacitor is also used for time out after a fault prior to restart.", 2 ITH "Error Amplifier Compensation Point. Normal operating voltage range is clamped between 0.7V and 1.9V.", 3 FB (in) "Receives the feedback voltage from an external resistor divider across the output.", 4 RUN (in) "An external resistor divider connects this pin to VIN and sets the thresholds for converter operation.", 5 FS (in) "A resistor connected from this pin to ground sets the frequency of operation.", 6 SYNC (in) "Input to synchronize the oscillator to an external source.", 7 ISENSE (in) "Performs two functions: for current mode control, it monitors the switch current, using the voltage across an external current sense resistor. Pin 7 also injects a current ramp that develops slope compensation voltage across (See Datasheet)", 8 OC (in) "Overcurrent Pin. Connect this pin to the external switch current sense resistor. An additional resistor programs the overcurrent trip level.", 9 VCC (power) "Supply Pin. A capacitor must closely decouple VCC to GND (Exposed Pad).", 10 GATE (out) "Gate Drive for the External N-Channel MOSFET. This pin swings from GND to VCC.", 11 EP (power) "Ground. A capacitor must closely decouple GND to VCC (Pin 9). The exposed pad must be soldered to electrical ground on PCB for electrical contact and rated thermal performance."

## LTC3805IMSE#PBF
designator U?
Adjustable Frequency Current Mode Flyback DC/DC Controller, 10-pin SOP (MSE-10-EDP), -40 to 125 degC, Pb-Free; Manufacturer: Linear Technology; PartNumber: LTC3805IMSE#PBF; Number of Outputs: 1; PackageReference: MSE-10; PackageDescription: 10-Pin Plastic MSOP, Exposed Die Pad, Body 3 x 3 mm, Pitch 0.5 mm; Supplier 1: Digi-Key; Supplier Part Number 1: LTC3805IMSE#PBF-ND; RoHS: TRUE
footprint LT-MSE-10-EDP_N (SOP, 10-Leads, Body 3.1x3.1mm, Pitch 0.5mm, Thermal Pad 1.88x1.68mm, IPC Medium Density)
footprint LT-MSE-10-EDP_L (SOP, 10-Leads, Body 3.1x3.1mm, Pitch 0.5mm, Thermal Pad 1.88x1.68mm, IPC High Density)
footprint LT-MSE-10-EDP_M (SOP, 10-Leads, Body 3.1x3.1mm, Pitch 0.5mm, Thermal Pad 1.88x1.68mm, IPC Low Density)
pins: 1 SSFLT (in) "Soft-Start Pin. A capacitor placed from this pin to GND (Exposed Pad) controls the rate of rise of converter output voltage during start-up. This capacitor is also used for time out after a fault prior to restart.", 2 ITH "Error Amplifier Compensation Point. Normal operating voltage range is clamped between 0.7V and 1.9V.", 3 FB (in) "Receives the feedback voltage from an external resistor divider across the output.", 4 RUN (in) "An external resistor divider connects this pin to VIN and sets the thresholds for converter operation.", 5 FS (in) "A resistor connected from this pin to ground sets the frequency of operation.", 6 SYNC (in) "Input to synchronize the oscillator to an external source.", 7 ISENSE (in) "Performs two functions: for current mode control, it monitors the switch current, using the voltage across an external current sense resistor. Pin 7 also injects a current ramp that develops slope compensation voltage across (See Datasheet)", 8 OC (in) "Overcurrent Pin. Connect this pin to the external switch current sense resistor. An additional resistor programs the overcurrent trip level.", 9 VCC (power) "Supply Pin. A capacitor must closely decouple VCC to GND (Exposed Pad).", 10 GATE (out) "Gate Drive for the External N-Channel MOSFET. This pin swings from GND to VCC.", 11 EP (power) "Ground. A capacitor must closely decouple GND to VCC (Pin 9). The exposed pad must be soldered to electrical ground on PCB for electrical contact and rated thermal performance."

## LTC3805IMSE#TRPBF
designator U?
Adjustable Frequency Current Mode Flyback DC/DC Controller, 10-pin SOP (MSE-10-EDP), -40 to 125 degC, Pb-Free, Tape and Reel; Manufacturer: Linear Technology; PartNumber: LTC3805IMSE#TRPBF; Number of Outputs: 1; PackageReference: MSE-10; PackageDescription: 10-Pin Plastic MSOP, Exposed Die Pad, Body 3 x 3 mm, Pitch 0.5 mm; Supplier 1: Digi-Key; Supplier Part Number 1: LTC3805IMSE#TRPBF-ND; RoHS: TRUE
footprint LT-MSE-10-EDP_N (SOP, 10-Leads, Body 3.1x3.1mm, Pitch 0.5mm, Thermal Pad 1.88x1.68mm, IPC Medium Density)
footprint LT-MSE-10-EDP_L (SOP, 10-Leads, Body 3.1x3.1mm, Pitch 0.5mm, Thermal Pad 1.88x1.68mm, IPC High Density)
footprint LT-MSE-10-EDP_M (SOP, 10-Leads, Body 3.1x3.1mm, Pitch 0.5mm, Thermal Pad 1.88x1.68mm, IPC Low Density)
pins: 1 SSFLT (in) "Soft-Start Pin. A capacitor placed from this pin to GND (Exposed Pad) controls the rate of rise of converter output voltage during start-up. This capacitor is also used for time out after a fault prior to restart.", 2 ITH "Error Amplifier Compensation Point. Normal operating voltage range is clamped between 0.7V and 1.9V.", 3 FB (in) "Receives the feedback voltage from an external resistor divider across the output.", 4 RUN (in) "An external resistor divider connects this pin to VIN and sets the thresholds for converter operation.", 5 FS (in) "A resistor connected from this pin to ground sets the frequency of operation.", 6 SYNC (in) "Input to synchronize the oscillator to an external source.", 7 ISENSE (in) "Performs two functions: for current mode control, it monitors the switch current, using the voltage across an external current sense resistor. Pin 7 also injects a current ramp that develops slope compensation voltage across (See Datasheet)", 8 OC (in) "Overcurrent Pin. Connect this pin to the external switch current sense resistor. An additional resistor programs the overcurrent trip level.", 9 VCC (power) "Supply Pin. A capacitor must closely decouple VCC to GND (Exposed Pad).", 10 GATE (out) "Gate Drive for the External N-Channel MOSFET. This pin swings from GND to VCC.", 11 EP (power) "Ground. A capacitor must closely decouple GND to VCC (Pin 9). The exposed pad must be soldered to electrical ground on PCB for electrical contact and rated thermal performance."

## LTC3805IMSE-5#PBF
designator U?
Adjustable Frequency Current Mode Flyback / Boost / SEPIC DC/DC Controller, 10-pin SOP (MSE-10-EDP), -40 to 125 degC, Pb-Free; Manufacturer: Linear Technology; PartNumber: LTC3805IMSE-5#PBF; Number of Outputs: 1; PackageReference: MSE-10; PackageDescription: 10-Pin Plastic MSOP, Exposed Die Pad, Body 3 x 3 mm, Pitch 0.5 mm; Supplier 1: Digi-Key; Supplier Part Number 1: LTC3805IMSE-5#PBF-ND; RoHS: TRUE
footprint LT-MSE-10-EDP_N (SOP, 10-Leads, Body 3.1x3.1mm, Pitch 0.5mm, Thermal Pad 1.88x1.68mm, IPC Medium Density)
footprint LT-MSE-10-EDP_L (SOP, 10-Leads, Body 3.1x3.1mm, Pitch 0.5mm, Thermal Pad 1.88x1.68mm, IPC High Density)
footprint LT-MSE-10-EDP_M (SOP, 10-Leads, Body 3.1x3.1mm, Pitch 0.5mm, Thermal Pad 1.88x1.68mm, IPC Low Density)
pins: 1 SSFLT (in) "Soft-Start Pin. A capacitor placed from this pin to GND (Exposed Pad) controls the rate of rise of converter output voltage during start-up. This capacitor is also used for time out after a fault prior to restart.", 2 ITH "Error Amplifier Compensation Point. Normal operating voltage range is clamped between 0.7V and 1.9V.", 3 FB (in) "Receives the feedback voltage from an external resistor divider across the output.", 4 RUN (in) "An external resistor divider connects this pin to VIN and sets the thresholds for converter operation.", 5 FS (in) "A resistor connected from this pin to ground sets the frequency of operation.", 6 SYNC (in) "Input to synchronize the oscillator to an external source.", 7 ISENSE (in) "Performs two functions: for current mode control, it monitors the switch current, using the voltage across an external current sense resistor. Pin 7 also injects a current ramp that develops slope compensation voltage across (See Datasheet)", 8 OC (in) "Overcurrent Pin. Connect this pin to the external switch current sense resistor. An additional resistor programs the overcurrent trip level.", 9 VCC (power) "Supply Pin. A capacitor must closely decouple VCC to GND (Exposed Pad).", 10 GATE (out) "Gate Drive for the External N-Channel MOSFET. This pin swings from GND to VCC.", 11 EP (power) "Ground. A capacitor must closely decouple GND to VCC (Pin 9). The exposed pad must be soldered to electrical ground on PCB for electrical contact and rated thermal performance."

## LTC3805IMSE-5#TRPBF
designator U?
Adjustable Frequency Current Mode Flyback / Boost / SEPIC DC/DC Controller, 10-pin SOP (MSE-10-EDP), -40 to 125 degC, Pb-Free, Tape and Reel; Manufacturer: Linear Technology; PartNumber: LTC3805IMSE-5#TRPBF; Number of Outputs: 1; PackageReference: MSE-10; PackageDescription: 10-Pin Plastic MSOP, Exposed Die Pad, Body 3 x 3 mm, Pitch 0.5 mm; Supplier 1: Digi-Key; Supplier Part Number 1: LTC3805IMSE-5#TRPBF-ND; RoHS: TRUE
footprint LT-MSE-10-EDP-2060x1830TP_N (SOP, 10-Leads, Body 3.1x3.1mm, Pitch 0.5mm, Thermal Pad 2.17x1.94mm, IPC Medium Density)
footprint LT-MSE-10-EDP-2060x1830TP_L (SOP, 10-Leads, Body 3.1x3.1mm, Pitch 0.5mm, Thermal Pad 2.17x1.94mm, IPC High Density)
footprint LT-MSE-10-EDP-2060x1830TP_M (SOP, 10-Leads, Body 3.1x3.1mm, Pitch 0.5mm, Thermal Pad 2.17x1.94mm, IPC Low Density)
pins: 1 SSFLT (in) "Soft-Start Pin. A capacitor placed from this pin to GND (Exposed Pad) controls the rate of rise of converter output voltage during start-up. This capacitor is also used for time out after a fault prior to restart.", 2 ITH "Error Amplifier Compensation Point. Normal operating voltage range is clamped between 0.7V and 1.9V.", 3 FB (in) "Receives the feedback voltage from an external resistor divider across the output.", 4 RUN (in) "An external resistor divider connects this pin to VIN and sets the thresholds for converter operation.", 5 FS (in) "A resistor connected from this pin to ground sets the frequency of operation.", 6 SYNC (in) "Input to synchronize the oscillator to an external source.", 7 ISENSE (in) "Performs two functions: for current mode control, it monitors the switch current, using the voltage across an external current sense resistor. Pin 7 also injects a current ramp that develops slope compensation voltage across (See Datasheet)", 8 OC (in) "Overcurrent Pin. Connect this pin to the external switch current sense resistor. An additional resistor programs the overcurrent trip level.", 9 VCC (power) "Supply Pin. A capacitor must closely decouple VCC to GND (Exposed Pad).", 10 GATE (out) "Gate Drive for the External N-Channel MOSFET. This pin swings from GND to VCC.", 11 EP (power) "Ground. A capacitor must closely decouple GND to VCC (Pin 9). The exposed pad must be soldered to electrical ground on PCB for electrical contact and rated thermal performance."